# Altium integrated library Bs8116a SSOP-20.IntLib: 1 symbol
Pins are listed as number, name and electrical type; pins without a type are passive.

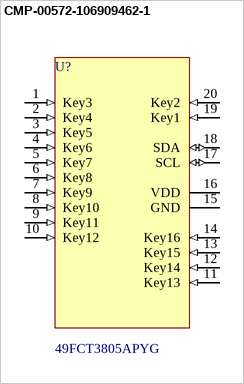
[diagram p0: symbol CMP-00572-106909462-1]

## CMP-00572-106909462-1
designator U?, comment 49FCT3805APYG
49FCT3805A Series 3 to 3.6 V Fast CMOS Buffer / Clock Driver - SSOP-20; Manufacturer Lifecycle Status: ACTIVE; Input: LVTTL; Max Input Voltage: 3.6V; Turn-On Delay Time: 5ns; Operating Supply Voltage: 3.3V; Min Input Voltage: 3V; Quiescent Current: 10µA; Pitch: 650µm; Number of Circuits: 2; Number of Outputs: 10; Nominal Supply Current: 20mA; Part Family: 49FCT3805A; Contact Plating: Tin; MSL: 1; Radiation Hardening: No; Mount: Surface Mount; Export Control Classification Number (ECCN) Code: NLR; Length: 7.2mm; RoHS: Compliant; Max Supply Voltage: 3.6V; Package Quantity: 0; ComponentLink1Description: Manufacturer's Website; Lead Free: Lead Free; ComponentLink2URL: https://octopart.com/cad-content/api/get-model-datasheet/15189/106909462; Output Type: CMOS; Harmonized Tariff Schedule (HTS) Code: 8540000000; HelpURL: https://octopart.com/cad-content/api/get-model-datasheet/15189/106909462; Thickness: 1.73mm; Propagation Delay: 5ns; ComponentLink2Description: Datasheet URL; Min Supply Voltage: 3V; Max Operating Temperature: 70°C; Min Operating Temperature: 0°C; Number of Pins: 20; Height: 1.73mm; Lifecycle Status: Production; ComponentLink3Description: Manufacturer's Package Drawing; ComponentLink3URL: https://www.renesas.com/en/document/psc/package-outline-drawing-package-code-pyg20-20-ssop-53-mm-body-065mm-pitch; Logic Function: Clock; Case/Package: SSOP; Width: 5.3mm; ComponentLink1URL: http://www.renesas.com
footprint PYG20_MFG (Recommended Land Pattern)
pins: 1 Key3 (in), 2 Key4 (in), 3 Key5 (in), 4 Key6 (in), 5 Key7 (in), 6 Key8 (in), 7 Key9 (in), 8 Key10 (in), 9 Key11 (in), 10 Key12 (in), 11 Key13 (in), 12 Key14 (in), 13 Key15 (in), 14 Key16 (in), 15 GND (power), 16 VDD (power), 17 SCL (io), 18 SDA (io), 19 Key1 (in), 20 Key2 (in)